# Altium footprint library 集成块.PcbLib: 98 footprints (part 1 of 7)
Each footprint in its own frame and in the unit in brackets; x right, y up, seen from the top. Pads: shape width x height; smd on the part's side, far side on the other; paste and mask are expansions set on the pad; w line width, h text height; cw(c..) or ccw(c..) is an arc to the next point about the centre after c.
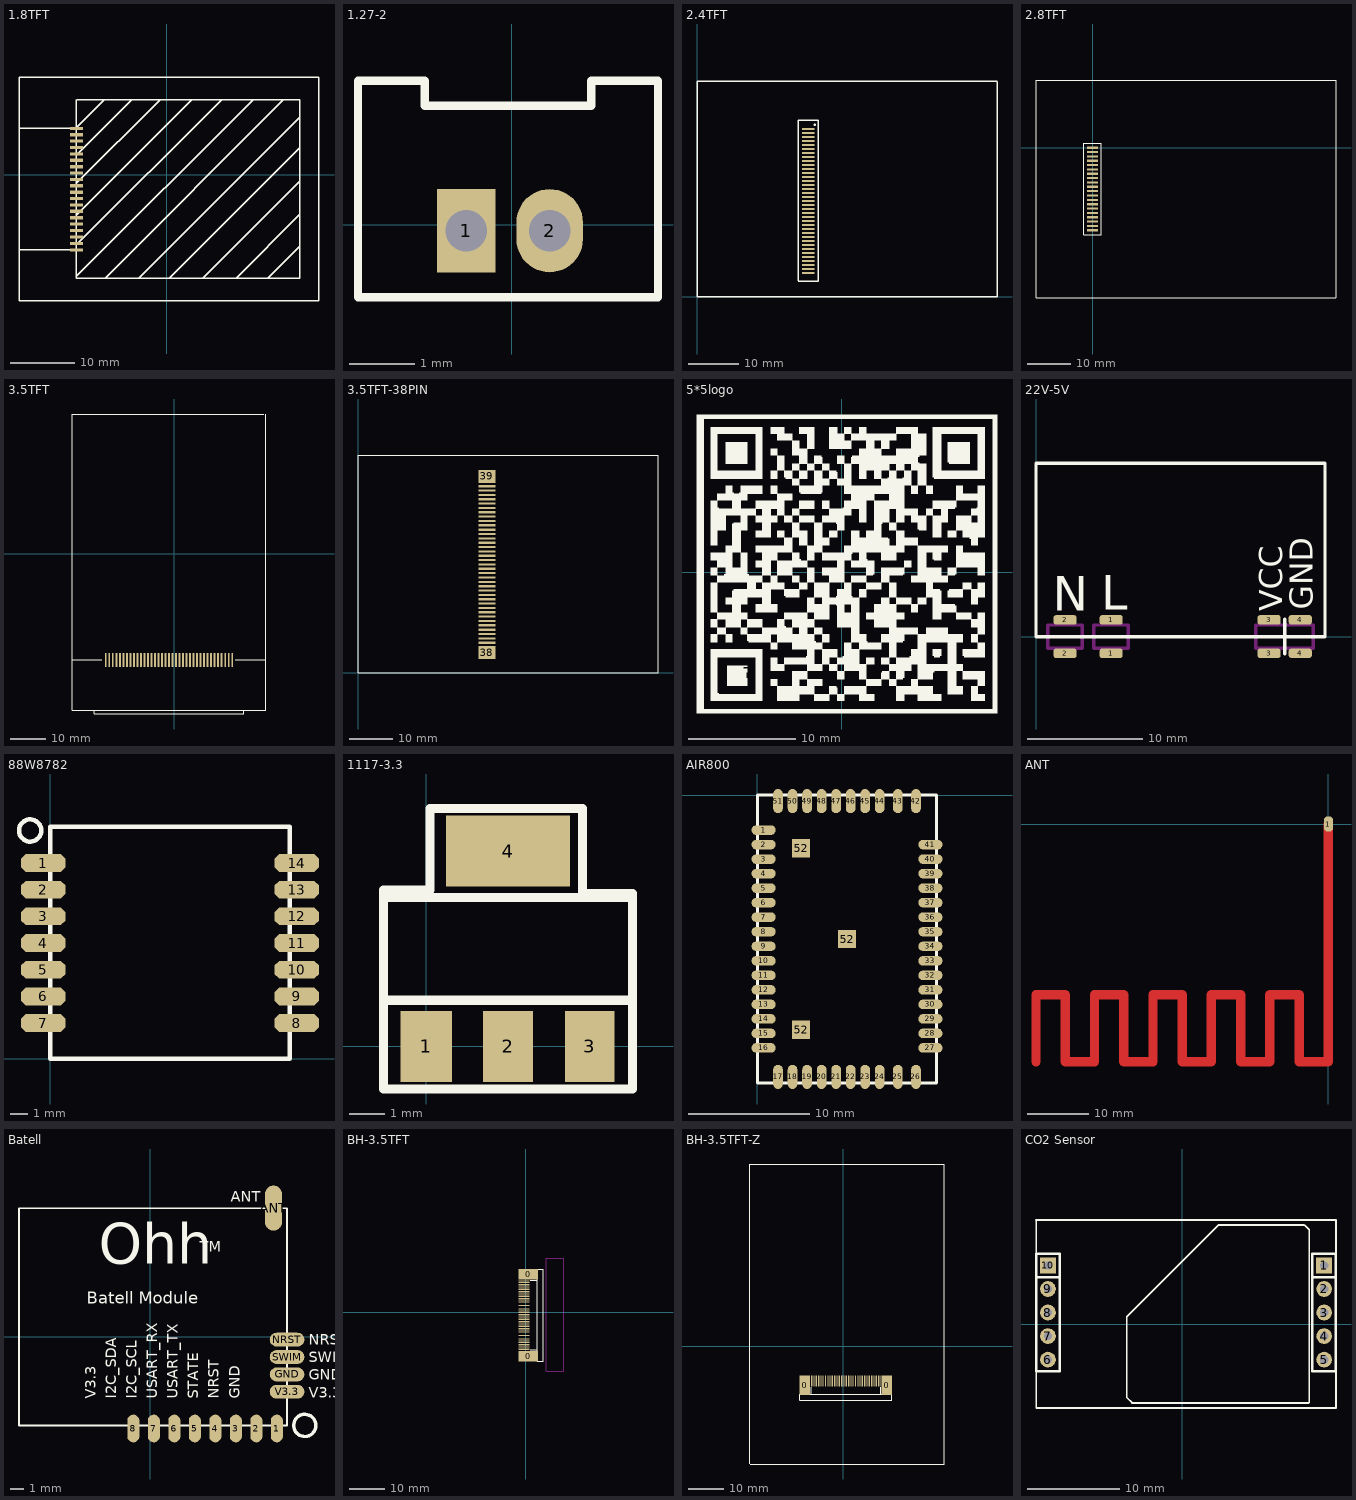
[diagram p0: the footprints below, top view; thin cyan lines are the x and y axes]

## 1.8TFT [mm]
pads (20):
  rect 2x0.5 smd: 1(-14.148,7.239) 2(-14.148,6.239) 3(-14.148,5.239) 4(-14.148,4.239) 5(-14.148,3.239) 6(-14.148,2.239) 7(-14.148,1.239) 8(-14.148,0.239) 9(-14.148,-0.761) 10(-14.148,-1.761) 11(-14.148,-2.761) 12(-14.148,-3.761) 13(-14.148,-4.761) 14(-14.148,-5.761) 15(-14.148,-6.761) 16(-14.148,-7.761) 17(-14.148,-8.761) 18(-14.122,-9.761) 19(-14.122,-10.811) 20(-14.122,-11.811)
Top Overlay:
  lines w0.22: -23.148,7.239 -14.148,7.239 ; -23.139,-11.811 -14.139,-11.811 ; -14.139,-15.926 13.521,11.735 13.589,11.735 ; -14.139,-11.024 8.534,11.65 8.534,11.735 ; -14.139,3.048 -5.478,11.709 -5.461,11.709 ; -14.139,11.739 -14.139,-16.261 20.861,-16.261 ; -14.13,11.735 20.87,11.735 20.87,-16.265 ; -14.122,-6.325 3.81,11.608 3.81,11.735 ; -14.122,-1.321 -1.118,11.684 -1.041,11.684 ; -14.097,7.391 -9.754,11.735 ; -9.576,-16.16 18.288,11.704 18.288,11.735 ; -4.394,-16.261 20.859,8.992 20.87,8.992 ; 0.381,-16.261 20.782,4.14 20.828,4.14 ; 5.613,-16.231 20.828,-1.016 20.87,-1.016 ; 10.856,-16.221 20.828,-6.248 ; 15.824,-16.261 20.828,-11.257 20.828,-11.252 ; -23.139,-19.761 -23.139,15.239 23.861,15.239 23.861,-19.761 -23.139,-19.761

## 1.27-2 [mil]
pads (2):
  rect 35x50 hole 25: 1(-27.23,-3.54)
  oval 40x50 hole 25: 2(22.77,-3.54)
Top Overlay:
  lines w5: -92.23,-43.54 12.77,-43.54 87.77,-43.54 87.77,-3.54 87.77,86.46 47.77,86.46 47.77,71.46 -52.23,71.46 -52.23,86.46 -92.23,86.46 -92.23,-3.54 -92.23,-43.54

## 2.4TFT [mm]
pads (37):
  rect 2.5x0.4 smd: 1(22.276,33.526) 2(22.276,32.726) 3(22.276,31.926) 4(22.276,31.126) 5(22.276,30.326) 6(22.276,29.526) 7(22.276,28.726) 8(22.276,27.926) 9(22.276,27.126) 10(22.276,26.326) 11(22.276,25.526) 12(22.276,24.726) 13(22.276,23.926) 14(22.276,23.126) 15(22.276,22.326) 16(22.276,21.526) 17(22.276,20.726) 18(22.276,19.926) 19(22.276,19.126) 20(22.276,18.326) 21(22.276,17.526) 22(22.276,16.726) 23(22.276,15.926) 24(22.276,15.126) 25(22.276,14.326) 26(22.276,13.526) 27(22.276,12.726) 28(22.276,11.926) 29(22.276,11.126) 30(22.276,10.326) 31(22.276,9.526) 32(22.276,8.726) 33(22.276,7.926) 34(22.276,7.126) 35(22.276,6.326) 36(22.276,5.526) 37(22.276,4.726)
Top Overlay:
  circle w0.254: c23.546,34.366 r0.127
  lines w0.254: 20.276,3.001 24.276,3.001 24.276,35.255 ; 20.276,3.124 20.276,35.251 22.276,35.251 24.276,35.251 ; 22.339,35.251 cw(c22.343,35.251) 22.343,35.255 ; 23.415,3.001 cw(c23.415,2.997) 23.419,2.997
  lines w0.3: 60,42.98 60,0 0,0 0,43 60,43

## 2.8TFT [mm]
pads (20):
  rect 2.5x0.5 smd: 1(0,0) 2(0,-1) 3(0,-2) 4(0,-3) 5(0,-4) 6(0,-5) 7(0,-6) 8(0,-7) 9(0,-8) 10(0,-9) 11(0,-10) 12(0,-11) 13(0,-12) 14(0,-13) 15(0,-14) 16(0,-15) 17(0,-16) 18(0,-17) 19(0,-18) 20(0,-19)
Top Overlay:
  lines w0.254: -13.005,-34.506 -13.005,15.494 ; -13,-34.5 56,-34.5 ; -13,15.5 56,15.5 ; 56.007,-34.494 56.007,15.494 ; -2,-20 2,-20 2,1 -2,1 -2,-20

## 3.5TFT [mm]
pads (37):
  rect 0.5x4 smd: 1(-19.454,-30.291) 2(-18.454,-30.291) 3(-17.454,-30.291) 4(-16.454,-30.291) 5(-15.454,-30.291) 6(-14.454,-30.291) 7(-13.454,-30.291) 8(-12.454,-30.291) 9(-11.454,-30.291) 10(-10.454,-30.291) 11(-9.454,-30.291) 12(-8.454,-30.291) 13(-7.454,-30.291) 14(-6.454,-30.291) 15(-5.454,-30.291) 16(-4.454,-30.291) 17(-3.454,-30.291) 18(-2.454,-30.291) 19(-1.454,-30.291) 20(-0.454,-30.291) 21(0.546,-30.291) 22(1.546,-30.291) 23(2.546,-30.291) 24(3.546,-30.291) 25(4.546,-30.291) 26(5.546,-30.291) 27(6.546,-30.291) 28(7.546,-30.291) 29(8.546,-30.291) 30(9.546,-30.291) 31(10.546,-30.291) 32(11.546,-30.291) 33(12.546,-30.291) 34(13.546,-30.291) 35(14.546,-30.291) 36(15.546,-30.291) 37(16.546,-30.291)
Top Overlay:
  lines w0.203: -29.084,-30.209 -20.584,-30.209 ; -22.794,-44.659 -22.794,-45.659 19.886,-45.659 19.886,-44.659 ; 17.416,-30.209 26.147,-30.209 ; 25.616,39.861 -29.084,39.861 -29.084,-44.659 26.176,-44.659 26.176,39.861

## 3.5TFT-38PIN [mm]
pads (39):
  rect 4x0.5 smd: 1(29.667,42.895) 2(29.667,41.895) 3(29.667,40.895) 4(29.667,39.895) 5(29.667,38.895) 6(29.667,37.895) 7(29.667,36.895) 8(29.667,35.895) 9(29.667,34.895) 10(29.667,33.895) 11(29.667,32.895) 12(29.667,31.895) 13(29.667,30.895) 15(29.667,28.895) 16(29.667,27.895) 17(29.667,26.895) 18(29.667,25.895) 19(29.667,24.895) 20(29.667,23.895) 21(29.667,22.895) 22(29.667,21.895) 23(29.667,20.895) 24(29.667,19.895) 25(29.667,18.895) 26(29.667,17.895) 27(29.667,16.895) 28(29.667,15.895) 29(29.667,14.895) 30(29.667,13.895) 31(29.667,12.895) 32(29.667,11.895) 33(29.667,10.895) 34(29.667,9.895) 35(29.667,8.895) 36(29.667,7.895) 37(29.667,6.895)
  rect 4x0.5 smd paste+0: 14(29.667,29.895)
  rect 4x3 smd: 38(29.667,4.645) 39(29.667,45.145)
Top Overlay:
  lines w0.254: 0,0 69,0 69,50 0,50 0,0

## 5*5logo [mm]
Top Overlay:
  drawing of 2348 lines, arcs and shapes, not listed

## 22V-5V [mm]
pads (8):
  rrect50% 2x0.8 smd: 1(6.502,-1.448) 1(6.502,1.448) 2(2.515,-1.448) 2(2.515,1.448) 3(20.168,-1.448) 3(20.168,1.448) 4(22.86,-1.448) 4(22.86,1.448)
Top Overlay:
  lines w0.3: 21.5,-1.5 21.5,1.5 ; 25,14.981 25,0 0,0 0,15 25,15
  text "N" at 1.448,2.235 h3
  text "L" at 5.639,2.311 h3
  text "VCC" at 21.311,2.21 h2
  text "GND" at 23.952,2.311 h2
Keep-Out Layer:
  lines w0.3: 1,-1 4,-1 4,1 1,1 1,-1 ; 5,-1 8,-1 8,1 5,1 5,-1 ; 19,-1 24,-1 24,1 19,1 19,-1

## 88W8782 [mm]
pads (14):
  oct 2.5x1 smd: 1(-0.4,11) 2(-0.4,9.5) 3(-0.4,8) 4(-0.4,6.5) 5(-0.4,5) 6(-0.4,3.5) 7(-0.4,2) 8(13.86,2) 9(13.86,3.5) 10(13.86,5) 11(13.86,6.5) 12(13.86,8) 13(13.86,9.5) 14(13.86,11)
Top Overlay:
  circle w0.254: c-1.134,12.827 r0.626
  lines w0.254: 13.46,0 13.46,13.03 0,13.03 0,0 13.462,0

## 1117-3.3 [mm]
pads (4):
  rect 1.45x2 smd: 1(0,0)
  rect 1.4x2 smd: 2(2.3,0) 3(4.6,0)
  rect 3.5x2 smd: 4(2.3,5.5)
Top Overlay:
  lines w0.254: -1.2,1.3 5.7,1.3 ; -1.2,4.2 5.7,4.2 ; -1.2,-1.2 -1.2,4.4 0.1,4.4 0.1,6.7 4.4,6.7 4.4,4.3 5.8,4.3 5.8,-1.2 -1.2,-1.2

## AIR800 [mm]
pads (54):
  oval 2x0.8 smd: 1(0.5,-2.9) 2(0.5,-4.1) 3(0.5,-5.3) 4(0.5,-6.5) 5(0.5,-7.7) 6(0.5,-8.9) 7(0.5,-10.1) 8(0.5,-11.3) 9(0.5,-12.5) 10(0.5,-13.7) 11(0.5,-14.9) 12(0.5,-16.1) 13(0.5,-17.3) 14(0.5,-18.5) 15(0.5,-19.7) 16(0.5,-20.9) 27(14.3,-20.9) 28(14.3,-19.7) 29(14.3,-18.5) 30(14.3,-17.3) 31(14.3,-16.1) 32(14.3,-14.9) 33(14.3,-13.7) 34(14.3,-12.5) 35(14.3,-11.3) 36(14.3,-10.1) 37(14.3,-8.9) 38(14.3,-7.7) 39(14.3,-6.5) 40(14.3,-5.3) 41(14.3,-4.1)
  oval 0.8x2 smd: 17(1.7,-23.3) 18(2.9,-23.3) 19(4.1,-23.3) 20(5.3,-23.3) 21(6.5,-23.3) 22(7.7,-23.3) 23(8.9,-23.3) 24(10.1,-23.3) 25(11.6,-23.3) 26(13.1,-23.3) 42(13.1,-0.5) 43(11.6,-0.5) 44(10.1,-0.5) 45(8.9,-0.5) 46(7.7,-0.5) 47(6.5,-0.5) 48(5.3,-0.5) 49(4.1,-0.5) 50(2.9,-0.5) 51(1.7,-0.5)
  rect 1.5x1.5 smd: 52(3.6,-19.4) 52(3.6,-4.4) 52(7.4,-11.9)
Top Overlay:
  lines w0.254: 14.8,-23.8 0,-23.8 0,0 14.8,0 14.8,-23.8

## ANT [mm]
pads (1):
  oct 1.5x2.5 smd: 1(0,0)
Top Layer:
  lines w1.54: -48,-39 -48,-28 -43.2,-28 -43.2,-39 -38.4,-39 -38.4,-28 -33.6,-28 -33.6,-39 -28.8,-39 -28.8,-28 -24,-28 -24,-39 -19.2,-39 -19.2,-28 -14.4,-28 -14.4,-39 -9.6,-39 -9.6,-28 -4.8,-28 -4.8,-39 0,-39 0,0

## Batell [mil]
pads (14):
  oval 35x80 smd: 1(365.45,-264.59) 2(306.38,-264.59) 3(247.31,-264.59) 4(188.24,-264.59) 5(129.17,-264.59) 6(70.1,-264.59) 7(11.02,-264.59) 8(-48.05,-264.59)
  oval 50x130 smd: ANT(355.95,370.41)
  oval 100x40 smd: GND(394.95,-108.59) NRST(394.95,-8.59) SWIM(394.95,-58.59) V3.3(394.95,-158.59)
  round 50 smd: ""(355.95,330.91)
Top Overlay:
  circle w10: c445.95,-255.59 r32
  lines w5: 394.95,213.41 394.95,370.41 -377.55,370.41 -377.55,-255.59 394.95,-255.59 394.95,239.41
  text "ANT" at 232.95,389.41 h30
  text "GND" at 257.95,-179.09 h30
  text "NRST" at 198.67,-179.09 h30
  text "STATE" at 139.38,-179.09 h30
  text "USART_TX" at 80.1,-179.09 h30
  text "USART_RX" at 20.81,-179.09 h30
  text "I2C_SCL" at -38.48,-179.09 h30
  text "I2C_SDA" at -97.76,-179.09 h30
  text "V3.3" at -157.05,-179.09 h30
  text "Batell Module" at -182.05,94.41 h35
  text "Ohh" at -147.05,171.12 h200
  text "TM" at 142.95,244.41 h30
  text "NRST" at 456.95,-22.59 h30
  text "GND" at 456.95,-124.59 h30
  text "V3.3" at 456.95,-175.59 h30
  text "SWIM" at 456.95,-73.59 h30
Bottom Overlay:
  text "Batell Module" at 237.95,94.41 h35
  text "V3.3" at -188.05,-179.09 h30
  text "I2C_SDA" at -123.62,-179.09 h30
  text "I2C_SCL" at -64.19,-179.09 h30
  text "USART_RX" at -4.76,-179.09 h30
  text "USART_TX" at 54.67,-179.09 h30
  text "NRST" at 168.52,-179.09 h30
  text "GND" at 227.95,-179.09 h30
  text "Ohh" at 192.95,174.41 h200
  text "TM" at -97.05,247.62 h30
  text "ANT" at 367.95,289.41 h30
  text "STATE" at 109.1,-179.09 h30

## BH-3.5TFT [mm]
pads (42):
  rect 5.5x3 smd: 0(0.626,-12.446) 0(0.626,10.828)
  rect 3x0.25 smd: 1(-0.533,8.941) 2(-0.533,8.441) 3(-0.533,7.941) 4(-0.533,7.441) 5(-0.533,6.941) 6(-0.533,6.441) 7(-0.533,5.941) 8(-0.533,5.441) 9(-0.533,4.941) 10(-0.533,4.441) 11(-0.533,3.941) 12(-0.533,3.441) 13(-0.533,2.941) 14(-0.533,2.441) 15(-0.533,1.941) 16(-0.533,1.441) 17(-0.533,0.941) 18(-0.533,0.441) 19(-0.533,-0.059) 20(-0.533,-0.559) 21(-0.533,-1.059) 22(-0.533,-1.559) 23(-0.533,-2.059) 24(-0.533,-2.559) 25(-0.533,-3.059) 26(-0.533,-3.559) 27(-0.533,-4.059) 28(-0.533,-4.559) 29(-0.533,-5.059) 30(-0.533,-5.559) 31(-0.533,-6.059) 32(-0.533,-6.559) 33(-0.533,-7.059) 34(-0.533,-7.559) 35(-0.533,-8.059) 36(-0.533,-8.559) 37(-0.533,-9.059) 38(-0.533,-9.559) 39(-0.533,-10.059) 40(-0.533,-10.559)
Top Overlay:
  lines w0.305: 1.261,-10.668 3.267,-10.668 ; 1.271,9.066 3.277,9.066 ; 3.267,11.591 3.267,-13.209 3.267,-13.809 4.967,-13.809 4.967,12.191 ; 3.271,11.566 3.271,12.166 ; 3.271,12.191 4.971,12.191
Bottom Overlay:
  lines w0.2: 37.451,-27.953 37.451,27.051
  lines w0.254: -47.581,27.019 -47.581,-27.981 37.423,-27.981 ; -47.563,27.051 37.451,27.051 ; -7.581,-27.94 -7.581,26.975
Keep-Out Layer:
  lines w0.2: 5.752,-16.688 10.667,-16.688
  lines w0.254: 5.726,15.316 10.654,15.316 ; 5.752,-16.688 5.752,15.316 ; 10.705,-16.688 10.705,15.367

## BH-3.5TFT-Z [mm]
pads (42):
  rect 3x5.5 smd: 0(-10.973,-10.963) 0(12.301,-10.963)
  rect 0.25x3 smd: 1(-9.086,-9.804) 2(-8.586,-9.804) 3(-8.086,-9.804) 4(-7.586,-9.804) 5(-7.086,-9.804) 6(-6.586,-9.804) 7(-6.086,-9.804) 8(-5.586,-9.804) 9(-5.086,-9.804) 10(-4.586,-9.804) 11(-4.086,-9.804) 12(-3.586,-9.804) 13(-3.086,-9.804) 14(-2.586,-9.804) 15(-2.086,-9.804) 16(-1.586,-9.804) 17(-1.086,-9.804) 18(-0.586,-9.804) 19(-0.086,-9.804) 20(0.414,-9.804) 21(0.914,-9.804) 22(1.414,-9.804) 23(1.914,-9.804) 24(2.414,-9.804) 25(2.914,-9.804) 26(3.414,-9.804) 27(3.914,-9.804) 28(4.414,-9.804) 29(4.914,-9.804) 30(5.414,-9.804) 31(5.914,-9.804) 32(6.414,-9.804) 33(6.914,-9.804) 34(7.414,-9.804) 35(7.914,-9.804) 36(8.414,-9.804) 37(8.914,-9.804) 38(9.414,-9.804) 39(9.914,-9.804) 40(10.414,-9.804)
Top Overlay:
  lines w0.2: -26.48,-33.336 28.524,-33.336
  lines w0.254: -26.508,-33.308 -26.508,51.696 28.492,51.696 ; 28.524,-33.336 28.524,51.678
  lines w0.305: -11.736,-13.62 13.064,-13.62 ; -11.736,-13.604 -12.336,-13.604 -12.336,-15.304 13.664,-15.304 ; -9.195,-13.604 -9.195,-11.598 ; 10.539,-13.615 10.539,-11.609 ; 13.039,-13.609 13.639,-13.609 ; 13.664,-15.309 13.664,-13.609

## CO2 Sensor [mm]
pads (10):
  rect 1.7x1.7 hole 0.9: 1(15.291,6.35) 10(-14.509,6.35)
  round 1.7 hole 0.9: 2(15.291,3.81) 3(15.291,1.27) 4(15.291,-1.27) 5(15.291,-3.81) 6(-14.509,-3.81) 7(-14.509,-1.27) 8(-14.509,1.27) 9(-14.509,3.81)
Top Overlay:
  lines w0.2: -15.779,-9.017 -15.779,11.22 -15.799,11.239 16.573,11.239 16.573,-9.017 -15.766,-9.017 ; 13.132,10.719 3.899,10.719 -6.007,0.813 -6.007,-7.899 -5.423,-8.484 13.627,-8.484 13.691,-8.42 13.691,10.211 13.221,10.681
  lines w0.254: -15.779,5.08 -13.239,5.08 ; 14.021,5.08 16.561,5.08 ; -15.779,-5.08 -15.779,7.62 -13.239,7.62 -13.239,-5.08 -15.779,-5.08 ; 14.021,-5.08 16.561,-5.08 16.561,7.62 14.021,7.62 14.021,-5.08